# Altium schematic symbol library 125-1189.SCHLIB: 1 symbol
Pins are listed as number, name and electrical type; pins without a type are passive.

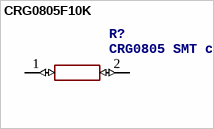
[diagram p0: symbol CRG0805F10K]

## CRG0805F10K
designator R?, comment CRG0805 SMT chip resistor,10K 0.125W TE Connectivity CRG0805 Series Thick Film Surface Mount Resistor 0805 Case 10k +/-1% 0.125W +/-100ppm/C   Source:  Datasheet
Manufacturer_Part_Number: CRG0805F10K; Manufacturer_Name: TE Connectivity; Mouser_Part_Number: N/A; Mouser_Price-Stock: https://www.mouser.co.uk/ProductDetail/TE-Connectivity/CRG0805F10K?qs=9ylKvqdyudm5ckRCC7pxbQ%3D%3D; Arrow_Part_Number: CRG0805F10K; Arrow_Price-Stock: https://www.arrow.com/en/products/crg0805f10k/te-connectivity?region=nac; Description: CRG0805 SMT chip resistor,10K 0.125W TE Connectivity CRG0805 Series Thick Film Surface Mount Resistor 0805 Case 10k +/-1% 0.125W +/-100ppm/C; Height: 0.65mm
footprint RESC2012X65N
pins: 1 (io), 2 (io)